# EAGLE library part WE-RJ45_7499111614A (library Wurth_Signal & Communications_WE-RJ45_LAN)
WE-RJ45 LAN Transformer Characteristics RJ45 Connector with integrated transformer / common mode choke Power over Ethernet up to 50 Watt and speeds up to 10 Gbit/s Available in SMD, THT and THT with USB Compliant with standards: IEEE 802.3u, IEEE 802.3ab, IEEE 802.3af, IEEE 802.3at, IEEE 802.3an and upcoming IEE 802.3bt Applications Suitable for industrial temperatures from –40 °C up to +85 °C Compatible to Industrial Ethernet systems like EtherCAT or Profinet Compliant with most IC’s for Ethernet applications such as Microchip, Texas Instruments, Broadcom, Linear Technology Hubs, Routers, Switches, IP cameras, IoT applications <https://www.we-online.com/components/media/o35731v209%20Family-WE-RJ45LAN-7499xxxxxx.jpg> Details see: www.we-online.com/components/products/WE-LAN-RJ45 <www.we-online.com/catalog/WE-LAN-RJ45/?utm_source=eagle_model&utm_medium=description_link&utm_campaign=eisos_eagle> Updated by Ella Wu 2023-03-27 2023 (C) Wurth Elektronik
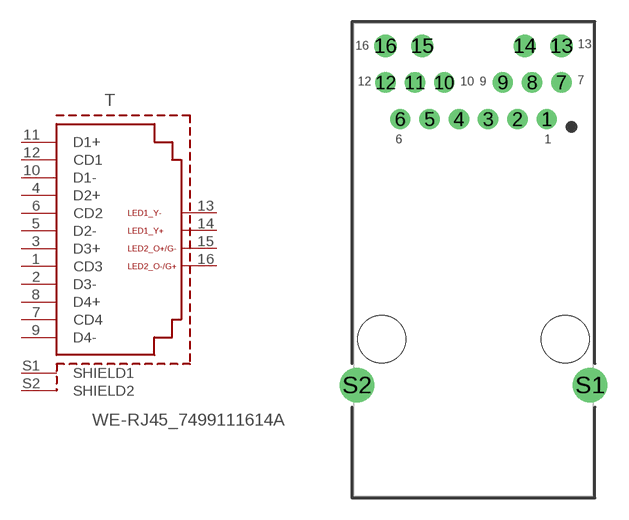
[diagram p62: symbol with the pads of 7499111614A; footprint 7499111614A]

Designator prefix T

## WE-RJ45_7499111614A (DATA-RATE: 10/100/1000 Base-T; DATASHEET-URL: https://www.we-online.com/redexpert/spec/7499111614A?ae; LED: green/orange-yellow; MOUNT: THT; PART-NUMBER: 7499111614A; POE: non-PoE; PORTS: 1; USB: No; VALUE: 7499111614A)  [7499111614A]
1  CD3  pas
2  D3-  pas
3  D3+  pas
4  D2+  pas
5  D2-  pas
6  CD2  pas
7  CD4  pas
8  D4+  pas
9  D4-  pas
10  D1-  pas
11  D1+  pas
12  CD1  pas
13  LED1_Y-  pas
14  LED1_Y+  pas
15  LED2_O+/G-  pas
16  LED2_O-/G+  pas
S1  SHIELD1  pas
S2  SHIELD2  pas

## Footprint 7499111614A (pad centres in mm)
WE-RJ45 LAN Transformer 10/100/1000 Base-T
drill 0.9: 1 5.075,15.24; 2 3.045,15.24; 3 1.015,15.24; 4 -1.015,15.24; 5 -3.045,15.24; 6 -5.075,15.24; 7 6.085,17.78; 8 4.055,17.78; 9 2.025,17.78; 10 -2.025,17.78; 11 -4.055,17.78; 12 -6.085,17.78
drill 1.03: 13 6.09,20.32; 14 3.55,20.32; 15 -3.55,20.32; 16 -6.09,20.32
drill 1.6: S1 8.065,-3.18; S2 -8.065,-3.18
hole 3.3 at -6.35,0
hole 3.3 at 6.35,0